# Altium footprint library hvSdbPcbLib.PcbLib: 10 footprints
Each footprint in its own frame and in the unit in brackets; x right, y up, seen from the top. Pads: shape width x height; smd on the part's side, far side on the other; paste and mask are expansions set on the pad; w line width, h text height; cw(c..) or ccw(c..) is an arc to the next point about the centre after c.
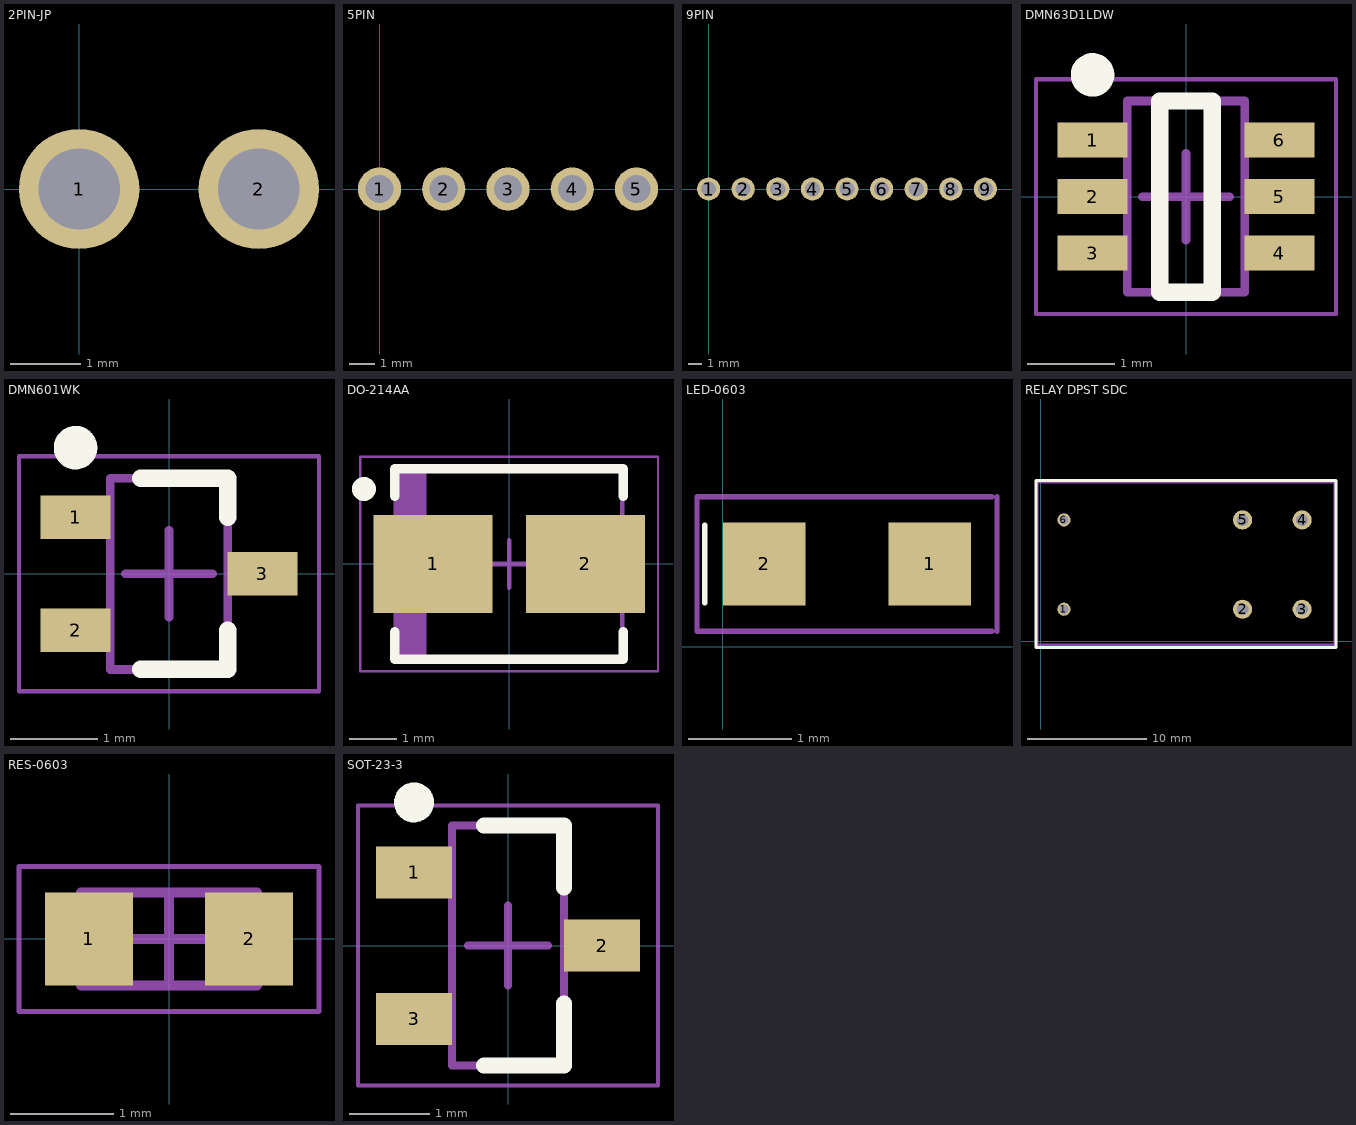
[diagram p0: the footprints below, top view; thin cyan lines are the x and y axes]

## 2PIN-JP [mm]
pads (2):
  round 1.7 hole 1.15: 1(0,0) 2(2.54,0)
3D body "61300211121_Download_STP_61300211121_rev1.stp": height 8.57, standoff -2.97, extent -1.24,-1.27 3.84,1.27

## 5PIN [mm]
pads (5):
  round 1.7 hole 1.11: 1(0,0) 2(2.54,0) 3(5.08,0) 4(7.62,0) 5(10.16,0)
3D body "5PIN.stp": height 7.06, standoff -3.22, extent -2.52,-12.823 12.72,0.766

## 9PIN [mm]
pads (9):
  round 1.7 hole 1.11: 1(0,0) 2(2.54,0) 3(5.08,0) 4(7.62,0) 5(10.16,0) 6(12.7,0) 7(15.24,0) 8(17.78,0) 9(20.32,0)
3D body "705530113.stp": height 7.06, standoff -3.22, extent -2.5,-12.889 22.9,0.7

## DMN63D1LDW [mm] "SOT363, 6-Leads, Body 2.00x2.10mm, Pitch 0.65mm, IPC Medium Density"
height 1
pads (6):
  rect 0.8x0.4 smd: 1(-1.075,0.65) 2(-1.075,0) 3(-1.075,-0.65) 4(1.075,-0.65) 5(1.075,0) 6(1.075,0.65)
Top Overlay:
  circle w0.25: c-1.075,1.4 r0.125
  lines w0.2: -0.3,-1.1 0.3,-1.1 0.3,1.1 -0.3,1.1 -0.3,-1.1
Mechanical 13:
  lines w0.1: -0.675,-1.1 -0.675,1.1 0.675,1.1 0.675,-1.1 -0.675,-1.1
Mechanical 15:
  lines w0.05: -1.725,-1.35 -1.725,1.35 1.725,1.35 1.725,-1.35 -1.725,-1.35
  lines w0.1: -0.5,0 0.5,0 ; 0,-0.5 0,0.5
3D body "DMN63D1LDW.step": height 1, standoff 0, extent -1.1,-1.1 1.1,1.1

## DMN601WK [mm]
height 1.1
pads (3):
  rect 0.8x0.5 smd: 1(-1.075,0.65) 2(-1.075,-0.65) 3(1.075,0)
Top Overlay:
  circle w0.25: c-1.075,1.45 r0.125
  lines w0.2: -0.325,-1.1 0.675,-1.1 0.675,-0.65 ; -0.325,1.1 0.675,1.1 0.675,0.65
Mechanical 13:
  lines w0.1: -0.675,-1.1 -0.675,1.1 0.675,1.1 0.675,-1.1 -0.675,-1.1
Mechanical 15:
  lines w0.05: -1.725,-1.35 -1.725,1.35 1.725,1.35 1.725,-1.35 -1.725,-1.35
  lines w0.1: -0.5,0 0.5,0 ; 0,-0.5 0,0.5
3D body "DMN601WK.step": height 1.1, standoff 0, extent -1.1,-1.1 1.1,1.1

## DO-214AA [mm] "Molded Diode, 2-Leads, Body 4.40x3.62mm, IPC Medium Density"
height 2.41
pads (2):
  rect 2.5x2.05 smd: 1(-1.6,0) 2(1.6,0)
Top Overlay:
  circle w0.25: c-3.05,1.575 r0.125
  lines w0.2: -2.4,-1.425 -2.4,-2 2.4,-2 2.4,-1.425 ; -2.4,1.425 -2.4,2 2.4,2 2.4,1.425
Mechanical 13:
  rectangle: -2.375,-1.97 -1.736,1.97
  lines w0.1: -2.375,-1.97 -2.375,1.97 2.375,1.97 2.375,-1.97 -2.375,-1.97
Mechanical 15:
  lines w0.05: -3.125,-2.25 -3.125,2.25 3.125,2.25 3.125,-2.25 -3.125,-2.25
  lines w0.1: -0.5,0 0.5,0 ; 0,-0.5 0,0.5
3D body "DIOM4436X24N.step": height 2.41, standoff 0, extent -2.595,-1.97 2.595,1.97

## LED-0603 [mm]
pads (2):
  rect 0.8x0.8 smd: 1(2,0.8) 2(0.4,0.8)
Top Overlay:
  lines w0.05: -0.175,0.425 -0.175,1.175
Mechanical 15:
  lines w0.05: 2.6,0.15 -0.25,0.15 -0.25,1.45 2.6,1.45 ; 2.65,0.15 2.65,1.45
3D body "150060AS75000_STP_150060xS75000_rev1.stp": height 0.7, standoff 0, extent 0.4,0.4 2,1.2

## RELAY DPST SDC [mm]
pads (6):
  round 1.1 hole 0.762: 1(1.95,2.7) 6(1.95,10.2)
  round 1.6 hole 1: 2(16.95,2.7) 3(21.95,2.7) 4(21.95,10.2) 5(16.95,10.2)
Top Overlay:
  lines w0.254: -0.4,-0.5 24.8,-0.5 24.8,13.5 -0.4,13.5 -0.4,-0.5
Mechanical 15:
  lines w0.254: -0.3,-0.3 -0.3,13.4 24.7,13.4 24.7,-0.3 -0.3,-0.3
3D body: height 0.25, standoff 0, extent 0,0 24.4,12.9
3D body "1891796_osa-ss-224dm3_000.stp": height 24.51, standoff -4.29, extent 0,0 24.4,12.9

## RES-0603 [mm] "Chip Resistor, 2-Leads, Body 1.60x0.80mm, IPC Medium Density"
height 0.55
pads (2):
  rect 0.85x0.9 smd: 1(-0.775,0) 2(0.775,0)
Mechanical 13:
  lines w0.1: -0.85,-0.45 0.85,-0.45 0.85,0.45 -0.85,0.45 -0.85,-0.45
Mechanical 15:
  lines w0.05: -1.45,-0.7 1.45,-0.7 1.45,0.7 -1.45,0.7 -1.45,-0.7
  lines w0.1: -0.45,0 0.45,0 ; 0,-0.45 0,0.45
3D body "RESC1608X06N.step": height 0.55, standoff 0, extent -0.85,-0.45 0.85,0.45

## SOT-23-3 [mm] "SOT23, 3-Leads, Body 2.90x2.40mm, Pitch 0.92mm, IPC Medium Density"
height 1.1
pads (3):
  rect 0.95x0.65 smd: 1(-1.175,0.915) 2(1.175,0) 3(-1.175,-0.915)
Top Overlay:
  circle w0.25: c-1.175,1.79 r0.125
  lines w0.2: -0.3,-1.5 0.7,-1.5 0.7,-0.725 ; -0.3,1.5 0.7,1.5 0.7,0.725
Mechanical 13:
  lines w0.1: -0.7,-1.5 0.7,-1.5 0.7,1.5 -0.7,1.5 -0.7,-1.5
Mechanical 15:
  lines w0.05: -1.875,-1.75 1.875,-1.75 1.875,1.75 -1.875,1.75 -1.875,-1.75
  lines w0.1: -0.5,0 0.5,0 ; 0,-0.5 0,0.5
3D body "SOT92P240X110-3N.step": height 1.1, standoff 0, extent -1.25,-1.5 1.25,1.5